# EAGLE library part BQ32000DR (library PatternAgents-TI-Tiva)
REAL-TIME CLOCK (RTC)
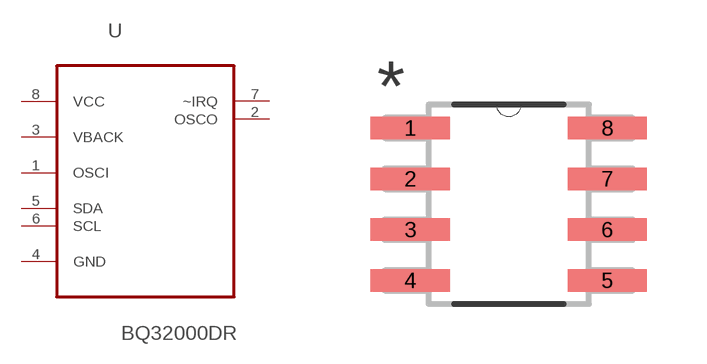
[diagram p10: symbol with the pads of SOIC127P600X175-8N; footprint SOIC127P600X175-8N]

Designator prefix U

## BQ32000DR (MPN: BQ32000DR; OC_FARNELL: 1754773; OC_NEWARK: 24R9067; PACKAGE: SOIC-8; SUPPLIER: TEXAS INSTRUMENTS)  [SOIC127P600X175-8N]
1  OSCI  in
2  OSCO  out
3  VBACK  pwr
4  GND  pas
5  SDA
6  SCL  in
7  ~IRQ  out
8  VCC  pwr

## Footprint SOIC127P600X175-8N (pad centres in mm)
smd 1.981 x 0.559: 1 -2.464,1.905; 2 -2.464,0.635; 3 -2.464,-0.635; 4 -2.464,-1.905; 5 2.464,-1.905; 6 2.464,-0.635; 7 2.464,0.635; 8 2.464,1.905